# Altium footprint library UFQFPN-32-5x5-EP.PcbLib: 1 footprints
Each footprint in its own frame and in the unit in brackets; x right, y up, seen from the top. Pads: shape width x height; smd on the part's side, far side on the other; paste and mask are expansions set on the pad; w line width, h text height; cw(c..) or ccw(c..) is an arc to the next point about the centre after c.
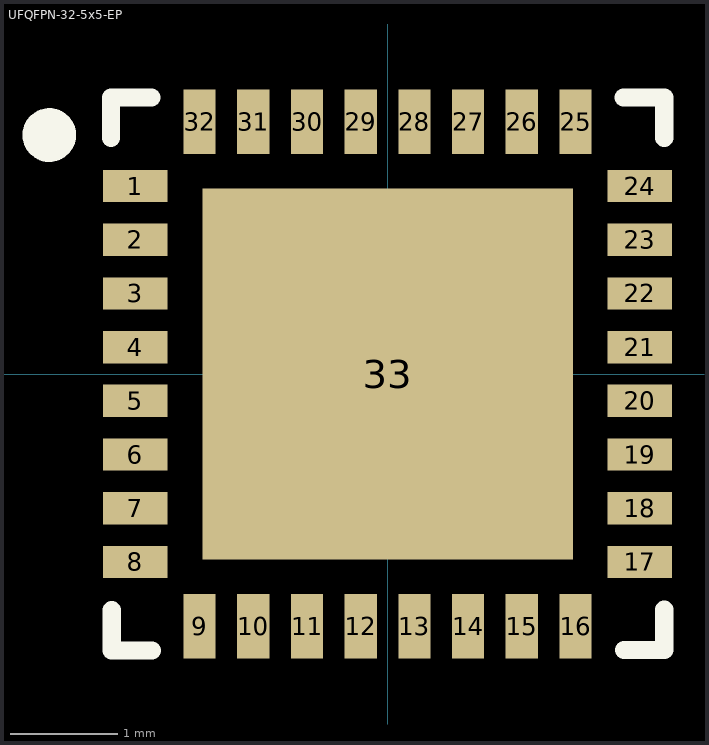
[diagram p0: the footprint, top view; thin cyan lines are the x and y axes]

## UFQFPN-32-5x5-EP [mm]
pads (33):
  rect 0.6x0.3 smd mask+0.05: 1(-2.35,1.75) 2(-2.35,1.25) 3(-2.35,0.75) 4(-2.35,0.25) 5(-2.35,-0.25) 6(-2.35,-0.75) 7(-2.35,-1.25) 8(-2.35,-1.75) 17(2.35,-1.75) 18(2.35,-1.25) 19(2.35,-0.75) 20(2.35,-0.25) 21(2.35,0.25) 22(2.35,0.75) 23(2.35,1.25) 24(2.35,1.75)
  rect 0.3x0.6 smd mask+0.05: 9(-1.75,-2.35) 10(-1.25,-2.35) 11(-0.75,-2.35) 12(-0.25,-2.35) 13(0.25,-2.35) 14(0.75,-2.35) 15(1.25,-2.35) 16(1.75,-2.35) 25(1.75,2.35) 26(1.25,2.35) 27(0.75,2.35) 28(0.25,2.35) 29(-0.25,2.35) 30(-0.75,2.35) 31(-1.25,2.35) 32(-1.75,2.35)
  rect 3.45x3.45 smd mask+0.102: 33(0,0)
Top Overlay:
  circle w0.25: c-3.15,2.225 r0.125
  lines w0.17: -2.575,2.2 -2.575,2.575 -2.2,2.575 ; -2.568,-2.2 -2.568,-2.575 -2.193,-2.575 ; 2.2,2.575 2.575,2.575 2.575,2.2 ; 2.202,-2.571 2.577,-2.571 2.577,-2.196
3D body: height 0.55, standoff 0, extent -2.5,-2.5 2.5,2.5